# EAGLE library part LTC6229IMS8E#TRPBF (library LTC6229IMS8E#TRPBF)
High Speed Operational Amplifiers Prec, Low Drift & Noise Hi Speed Amp Source: Datasheet <https://www.analog.com/media/en/technical-documentation/data-sheets/LTC6228-6229.pdf>
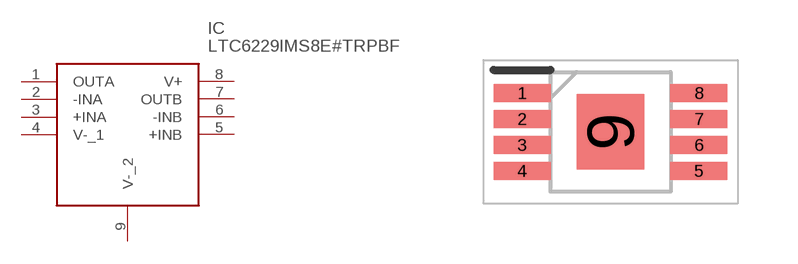
[diagram p0: symbol with the pads of SOP65P490X110-9N; footprint SOP65P490X110-9N]

Designator prefix IC

## LTC6229IMS8E#TRPBF (Description: High Speed Operational Amplifiers Prec, Low Drift & Noise Hi Speed Amp; Height: 1.1mm; Manufacturer_Name: Analog Devices; Manufacturer_Part_Number: LTC6229IMS8E#TRPBF; Mouser_Part_Number: 584-LTC6229IMS8E#TR; Mouser_Price-Stock: https://www.mouser.co.uk/ProductDetail/Analog-Devices/LTC6229IMS8ETRPBF?qs=BJlw7L4Cy7%252B3qToO7Cz9NQ%3D%3D)  [SOP65P490X110-9N]
1  OUTA
2  -INA
3  +INA
4  V-_1
5  +INB
6  -INB
7  OUTB
8  V+
9  V-_2

## Footprint SOP65P490X110-9N (pad centres in mm)
MSOP-8
smd 1.425 x 0.45: 1 -2.212,0.975; 2 -2.212,0.325; 3 -2.212,-0.325; 4 -2.212,-0.975; 5 2.212,-0.975; 6 2.212,-0.325; 7 2.212,0.325; 8 2.212,0.975
smd 1.68 x 1.88: 9 0,0